# EAGLE library part TPS63021DSJR (library Joule Expansion Board)
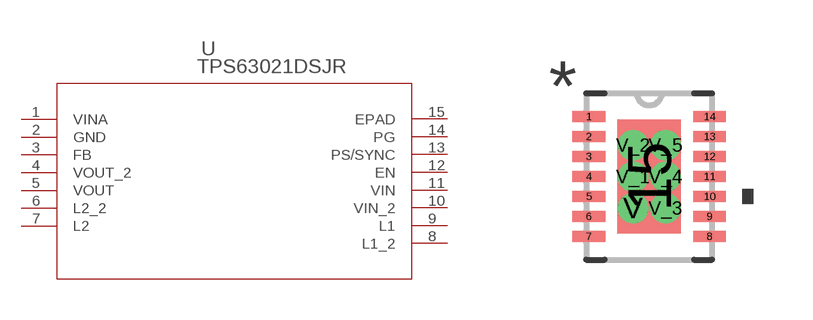
[diagram p4: symbol with the pads of DSJ14_2P85X1P58; footprint DSJ14_2P85X1P58]

Designator prefix U

## TPS63021DSJR (MANUFACTURER_PART_NUMBER: TPS63021DSJR; VENDOR: Texas Instruments)  [DSJ14_2P85X1P58]
1  VINA  in
2  GND  pwr
3  FB  in
4  VOUT_2  out
5  VOUT  out
6  L2_2  in
7  L2  in
8  L1_2  in
9  L1  in
10  VIN_2  in
11  VIN  in
12  EN  in
13  PS/SYNC  in
14  PG  out
15  EPAD  pas

## Footprint DSJ14_2P85X1P58 (pad centres in mm)
smd 0.82 x 0.28: 1 -1.51,1.5; 2 -1.51,1; 3 -1.51,0.5; 4 -1.51,0; 5 -1.51,-0.5; 6 -1.51,-1; 7 -1.51,-1.5; 8 1.51,-1.5; 9 1.51,-1; 10 1.51,-0.5; 11 1.51,0; 12 1.51,0.5; 13 1.51,1; 14 1.51,1.5
smd 1.58 x 2.85: 15 0,0
drill 0.254 pad 0.508: V -0.406,-0.787; V_1 -0.406,0; V_2 -0.406,0.787; V_3 0.406,-0.787; V_4 0.406,0; V_5 0.406,0.787